# EAGLE library part 15EDGRC-3.5-24P-14-00A (library Connectors)
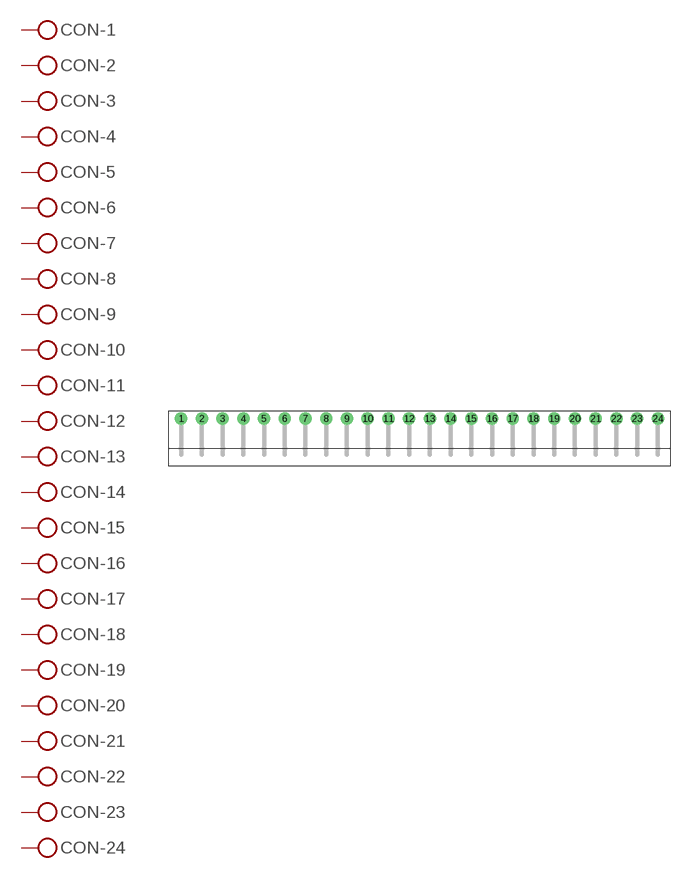
[diagram p37: symbol with the pads of 15EDGRC-3.5-24P-14-00A; footprint 15EDGRC-3.5-24P-14-00A]

Designator prefix CON; gates -1=KL -2=KL -3=KL -4=KL -5=KL -6=KL -7=KL -8=KL -9=KL -10=KL -11=KL -12=KL -13=KL -14=KL -15=KL -16=KL -17=KL -18=KL -19=KL -20=KL -21=KL -22=KL -23=KL -24=KL

## 15EDGRC-3.5-24P-14-00A  [15EDGRC-3.5-24P-14-00A]
1  -1:KL  pas
2  -2:KL  pas
3  -3:KL  pas
4  -4:KL  pas
5  -5:KL  pas
6  -6:KL  pas
7  -7:KL  pas
8  -8:KL  pas
9  -9:KL  pas
10  -10:KL  pas
11  -11:KL  pas
12  -12:KL  pas
13  -13:KL  pas
14  -14:KL  pas
15  -15:KL  pas
16  -16:KL  pas
17  -17:KL  pas
18  -18:KL  pas
19  -19:KL  pas
20  -20:KL  pas
21  -21:KL  pas
22  -22:KL  pas
23  -23:KL  pas
24  -24:KL  pas

## Footprint 15EDGRC-3.5-24P-14-00A (pad centres in mm)
drill 1.4: 1 0,0; 2 3.5,0; 3 7,0; 4 10.5,0; 5 14,0; 6 17.5,0; 7 21,0; 8 24.5,0; 9 28,0; 10 31.5,0; 11 35,0; 12 38.5,0; 13 42,0; 14 45.5,0; 15 49,0; 16 52.5,0; 17 56,0; 18 59.5,0; 19 63,0; 20 66.5,0; 21 70,0; 22 73.5,0; 23 77,0; 24 80.5,0